# Altium schematic symbol library UserConnetor.SchLib: 3 symbols
Pins are listed as number, name and electrical type; pins without a type are passive.

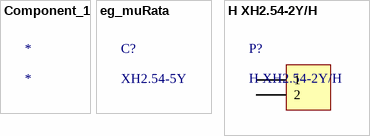
[diagram p0: symbols Component_1 to H XH2.54-2Y/H]

## Component_1
designator *

## eg_muRata
designator C?, comment XH2.54-5Y
连接器示例; ManufacturerPartNumber: 工厂编号; Manufacturer: 工厂; ComponentLink1Description: NULL; Supplier: LC; SuppliersPartNumber: 销售商零件编号; Package: 封装; SuppliersLink1URL: 销售商链接

## H XH2.54-2Y/H
designator P?
卧式带卡槽2.54; ManufacturerPartNumber: 工厂编号; Manufacturer: 工厂; ComponentLink1Description: NULL; Supplier: LC; SuppliersPartNumber: 销售商零件编号; Package: 封装; SuppliersLink1URL: 销售商链接
footprint XH2.54-2H (水平连接器)
pins: 1, 2